# Altium schematic symbol library 3.4 - Holtek合泰单片机.SchLib: 87 symbols (part 2 of 2)
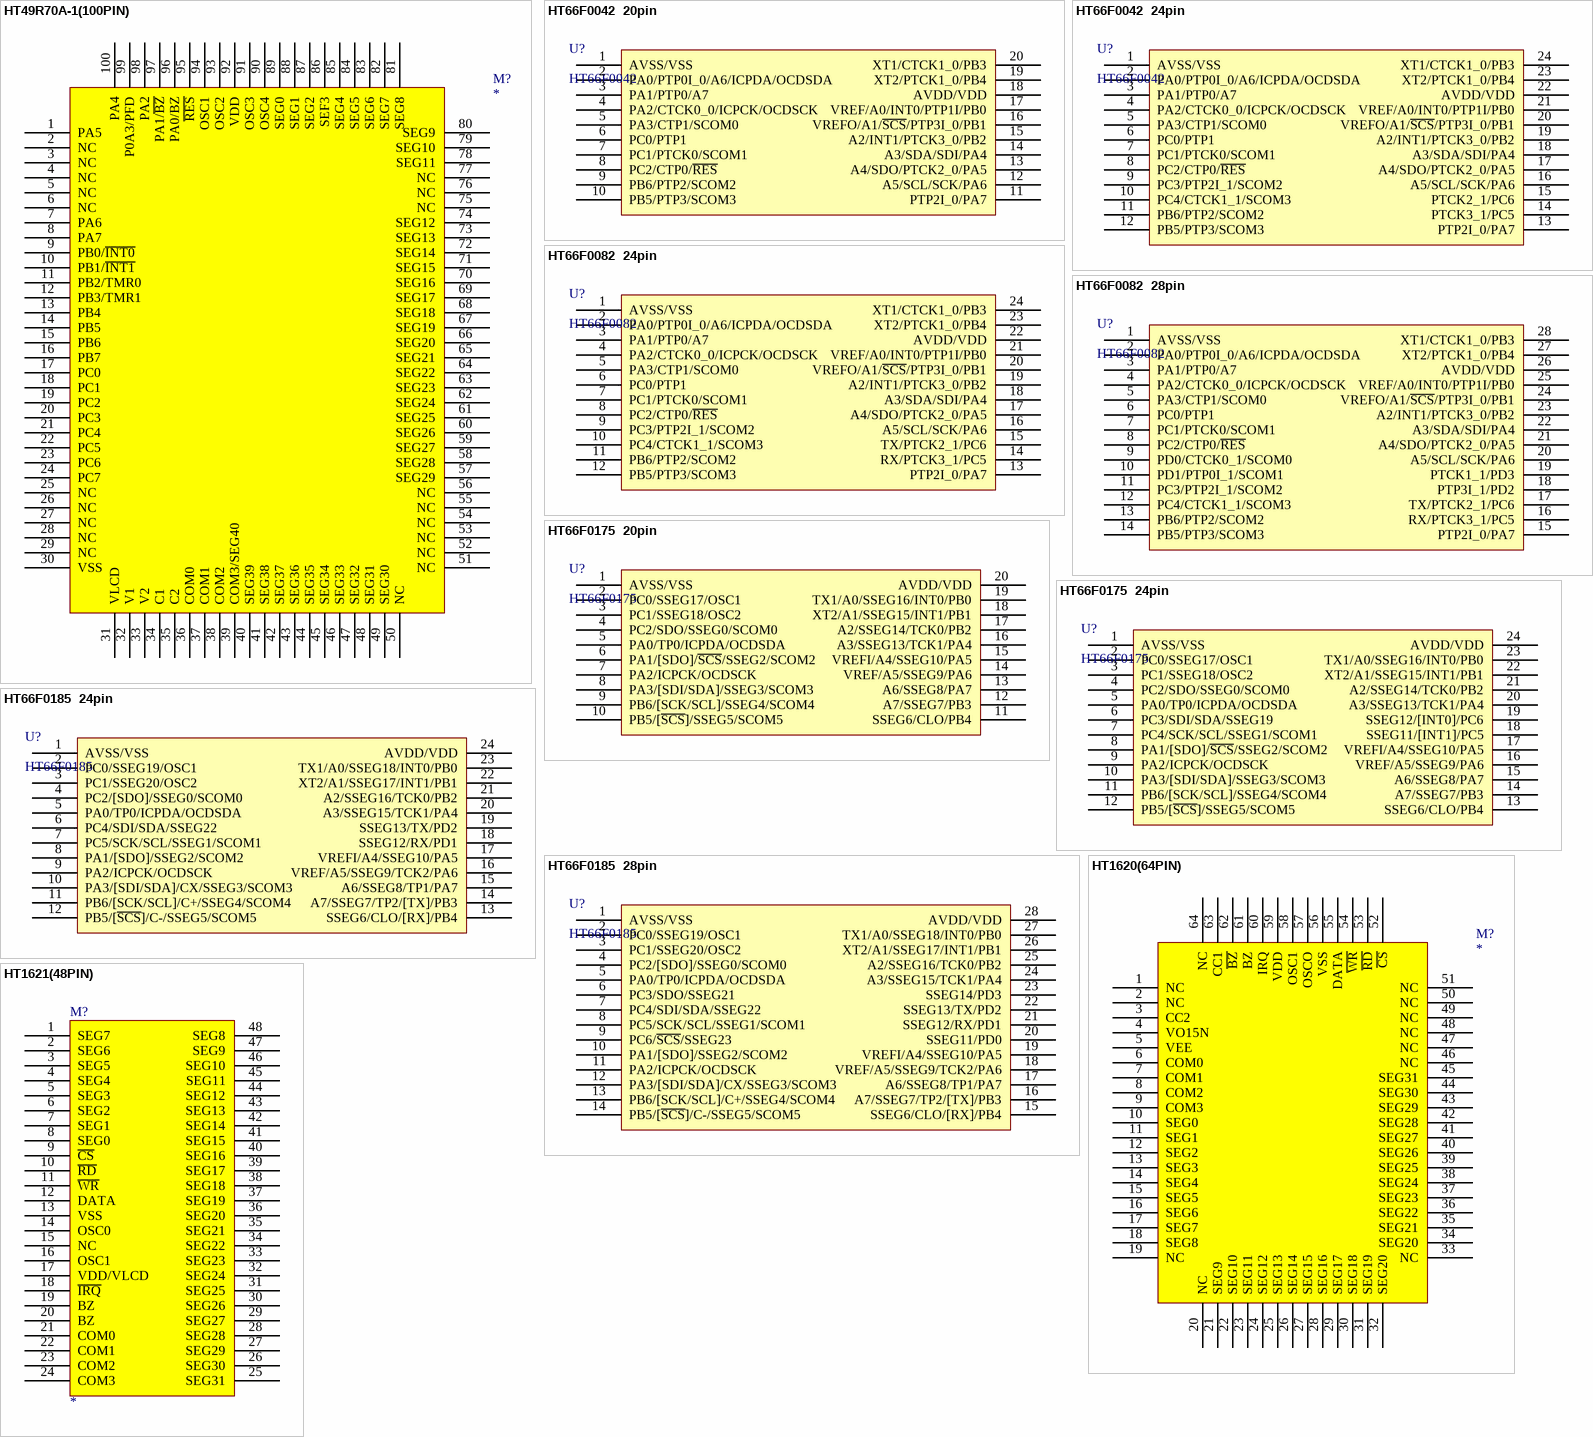
[diagram p8: symbols HT49R70A-1(100PIN) to HT1621(48PIN)]

## HT66F0175  24pin
designator U?, comment HT66F0175
LCD/AD型; 1.库作者: 冰凌猫; 2.库版本: v2.0 (2021.03.30); 3.交流分享: Q群514746572,开源更新,欢迎一起交流学习PCB设计; 4.作者声明: 旨为整合最全库集,欢迎转载,禁止商用！-冰凌猫; 5.备注说明: 该库已二次整合过网上各热销库,基本最全,无需重复搜购安装; 0.0_BOM名称: LCD/AD型
footprint SOP24_L (15.4*10.6*2.6mm（长宽高）)
footprint SOP24_N (15.4*10.6*2.6mm（长宽高）)
footprint SOP24_M (15.4*10.6*2.6mm（长宽高）)
pins: 1 AVSS/VSS, 2 PC0/SSEG17/OSC1, 3 PC1/SSEG18/OSC2, 4 PC2/SDO/SSEG0/SCOM0, 5 PA0/TP0/ICPDA/OCDSDA, 6 PC3/SDI/SDA/SSEG19, 7 PC4/SCK/SCL/SSEG1/SCOM1, 8 PA1/[SDO]/~{SCS}/SSEG2/SCOM2, 9 PA2/ICPCK/OCDSCK, 10 PA3/[SDI/SDA]/SSEG3/SCOM3, 11 PB6/[SCK/SCL]/SSEG4/SCOM4, 12 PB5/[~{SCS}]/SSEG5/SCOM5, 13 SSEG6/CLO/PB4, 14 A7/SSEG7/PB3, 15 A6/SSEG8/PA7, 16 VREF/A5/SSEG9/PA6, 17 VREFI/A4/SSEG10/PA5, 18 SSEG11/[INT1]/PC5, 19 SSEG12/[INT0]/PC6, 20 A3/SSEG13/TCK1/PA4, 21 A2/SSEG14/TCK0/PB2, 22 XT2/A1/SSEG15/INT1/PB1, 23 TX1/A0/SSEG16/INT0/PB0, 24 AVDD/VDD

## HT66F0185  24pin
designator U?, comment HT66F0185
LCD/AD型; 1.库作者: 冰凌猫; 2.库版本: v2.0 (2021.03.30); 3.交流分享: Q群514746572,开源更新,欢迎一起交流学习PCB设计; 4.作者声明: 旨为整合最全库集,欢迎转载,禁止商用！-冰凌猫; 5.备注说明: 该库已二次整合过网上各热销库,基本最全,无需重复搜购安装; 0.0_BOM名称: LCD/AD型
footprint SOP24_L (15.4*10.6*2.6mm（长宽高）)
footprint SOP24_N (15.4*10.6*2.6mm（长宽高）)
footprint SOP24_M (15.4*10.6*2.6mm（长宽高）)
pins: 1 AVSS/VSS, 2 PC0/SSEG19/OSC1, 3 PC1/SSEG20/OSC2, 4 PC2/[SDO]/SSEG0/SCOM0, 5 PA0/TP0/ICPDA/OCDSDA, 6 PC4/SDI/SDA/SSEG22, 7 PC5/SCK/SCL/SSEG1/SCOM1, 8 PA1/[SDO]/SSEG2/SCOM2, 9 PA2/ICPCK/OCDSCK, 10 PA3/[SDI/SDA]/CX/SSEG3/SCOM3, 11 PB6/[SCK/SCL]/C+/SSEG4/SCOM4, 12 PB5/[~{SCS}]/C-/SSEG5/SCOM5, 13 SSEG6/CLO/[RX]/PB4, 14 A7/SSEG7/TP2/[TX]/PB3, 15 A6/SSEG8/TP1/PA7, 16 VREF/A5/SSEG9/TCK2/PA6, 17 VREFI/A4/SSEG10/PA5, 18 SSEG12/RX/PD1, 19 SSEG13/TX/PD2, 20 A3/SSEG15/TCK1/PA4, 21 A2/SSEG16/TCK0/PB2, 22 XT2/A1/SSEG17/INT1/PB1, 23 TX1/A0/SSEG18/INT0/PB0, 24 AVDD/VDD

## HT66F0185  28pin
designator U?, comment HT66F0185
LCD/AD型; 1.库作者: 冰凌猫; 2.库版本: v2.0 (2021.03.30); 3.交流分享: Q群514746572,开源更新,欢迎一起交流学习PCB设计; 4.作者声明: 旨为整合最全库集,欢迎转载,禁止商用！-冰凌猫; 5.备注说明: 该库已二次整合过网上各热销库,基本最全,无需重复搜购安装; 0.0_BOM名称: LCD/AD型
footprint SOP28_L (17.9*10.6*2.6mm（长宽高）)
footprint SOP28_N (17.9*10.6*2.6mm（长宽高）)
footprint SOP28_M (17.9*10.6*2.6mm（长宽高）)
pins: 1 AVSS/VSS, 2 PC0/SSEG19/OSC1, 3 PC1/SSEG20/OSC2, 4 PC2/[SDO]/SSEG0/SCOM0, 5 PA0/TP0/ICPDA/OCDSDA, 6 PC3/SDO/SSEG21, 7 PC4/SDI/SDA/SSEG22, 8 PC5/SCK/SCL/SSEG1/SCOM1, 9 PC6/~{SCS}/SSEG23, 10 PA1/[SDO]/SSEG2/SCOM2, 11 PA2/ICPCK/OCDSCK, 12 PA3/[SDI/SDA]/CX/SSEG3/SCOM3, 13 PB6/[SCK/SCL]/C+/SSEG4/SCOM4, 14 PB5/[~{SCS}]/C-/SSEG5/SCOM5, 15 SSEG6/CLO/[RX]/PB4, 16 A7/SSEG7/TP2/[TX]/PB3, 17 A6/SSEG8/TP1/PA7, 18 VREF/A5/SSEG9/TCK2/PA6, 19 VREFI/A4/SSEG10/PA5, 20 SSEG11/PD0, 21 SSEG12/RX/PD1, 22 SSEG13/TX/PD2, 23 SSEG14/PD3, 24 A3/SSEG15/TCK1/PA4, 25 A2/SSEG16/TCK0/PB2, 26 XT2/A1/SSEG17/INT1/PB1, 27 TX1/A0/SSEG18/INT0/PB0, 28 AVDD/VDD

## HT1620(64PIN)
designator M?
HT1620(64PIN); 1.库作者: 冰凌猫; 2.库版本: v2.0 (2021.03.30); 3.交流分享: Q群514746572,开源更新,欢迎一起交流学习PCB设计; 4.作者声明: 旨为整合最全库集,欢迎转载,禁止商用！-冰凌猫; 5.备注说明: 该库已二次整合过网上各热销库,基本最全,无需重复搜购安装
footprint QFP64
pins: 1 NC, 2 NC, 3 CC2, 4 VO15N, 5 VEE, 6 COM0, 7 COM1, 8 COM2, 9 COM3, 10 SEG0, 11 SEG1, 12 SEG2, 13 SEG3, 14 SEG4, 15 SEG5, 16 SEG6, 17 SEG7, 18 SEG8, 19 NC, 20 NC, 21 SEG9, 22 SEG10, 23 SEG11, 24 SEG12, 25 SEG13, 26 SEG14, 27 SEG15, 28 SEG16, 29 SEG17, 30 SEG18, 31 SEG19, 32 SEG20, 33 NC, 34 SEG20, 35 SEG21, 36 SEG22, 37 SEG23, 38 SEG24, 39 SEG25, 40 SEG26, 41 SEG27, 42 SEG28, 43 SEG29, 44 SEG30, 45 SEG31, 46 NC, 47 NC, 48 NC, 49 NC, 50 NC, 51 NC, 52 ~{CS}, 53 ~{RD}, 54 ~{WR}, 55 DATA, 56 VSS, 57 OSCO, 58 OSC1, 59 VDD, 60 IRQ, 61 BZ, 62 ~{BZ}, 63 CC1, 64 NC

## HT1621(48PIN)
designator M?
HT1621(48PIN); 1.库作者: 冰凌猫; 2.库版本: v2.0 (2021.03.30); 3.交流分享: Q群514746572,开源更新,欢迎一起交流学习PCB设计; 4.作者声明: 旨为整合最全库集,欢迎转载,禁止商用！-冰凌猫; 5.备注说明: 该库已二次整合过网上各热销库,基本最全,无需重复搜购安装
footprint SSOP48
pins: 1 SEG7, 2 SEG6, 3 SEG5, 4 SEG4, 5 SEG3, 6 SEG2, 7 SEG1, 8 SEG0, 9 ~{CS}, 10 ~{RD}, 11 ~{WR}, 12 DATA, 13 VSS, 14 OSC0, 15 NC, 16 OSC1, 17 VDD/VLCD, 18 ~{IRQ}, 19 BZ, 20 BZ, 21 COM0, 22 COM1, 23 COM2, 24 COM3, 25 SEG31, 26 SEG30, 27 SEG29, 28 SEG28, 29 SEG27, 30 SEG26, 31 SEG25, 32 SEG24, 33 SEG23, 34 SEG22, 35 SEG21, 36 SEG20, 37 SEG19, 38 SEG18, 39 SEG17, 40 SEG16, 41 SEG15, 42 SEG14, 43 SEG13, 44 SEG12, 45 SEG11, 46 SEG10, 47 SEG9, 48 SEG8

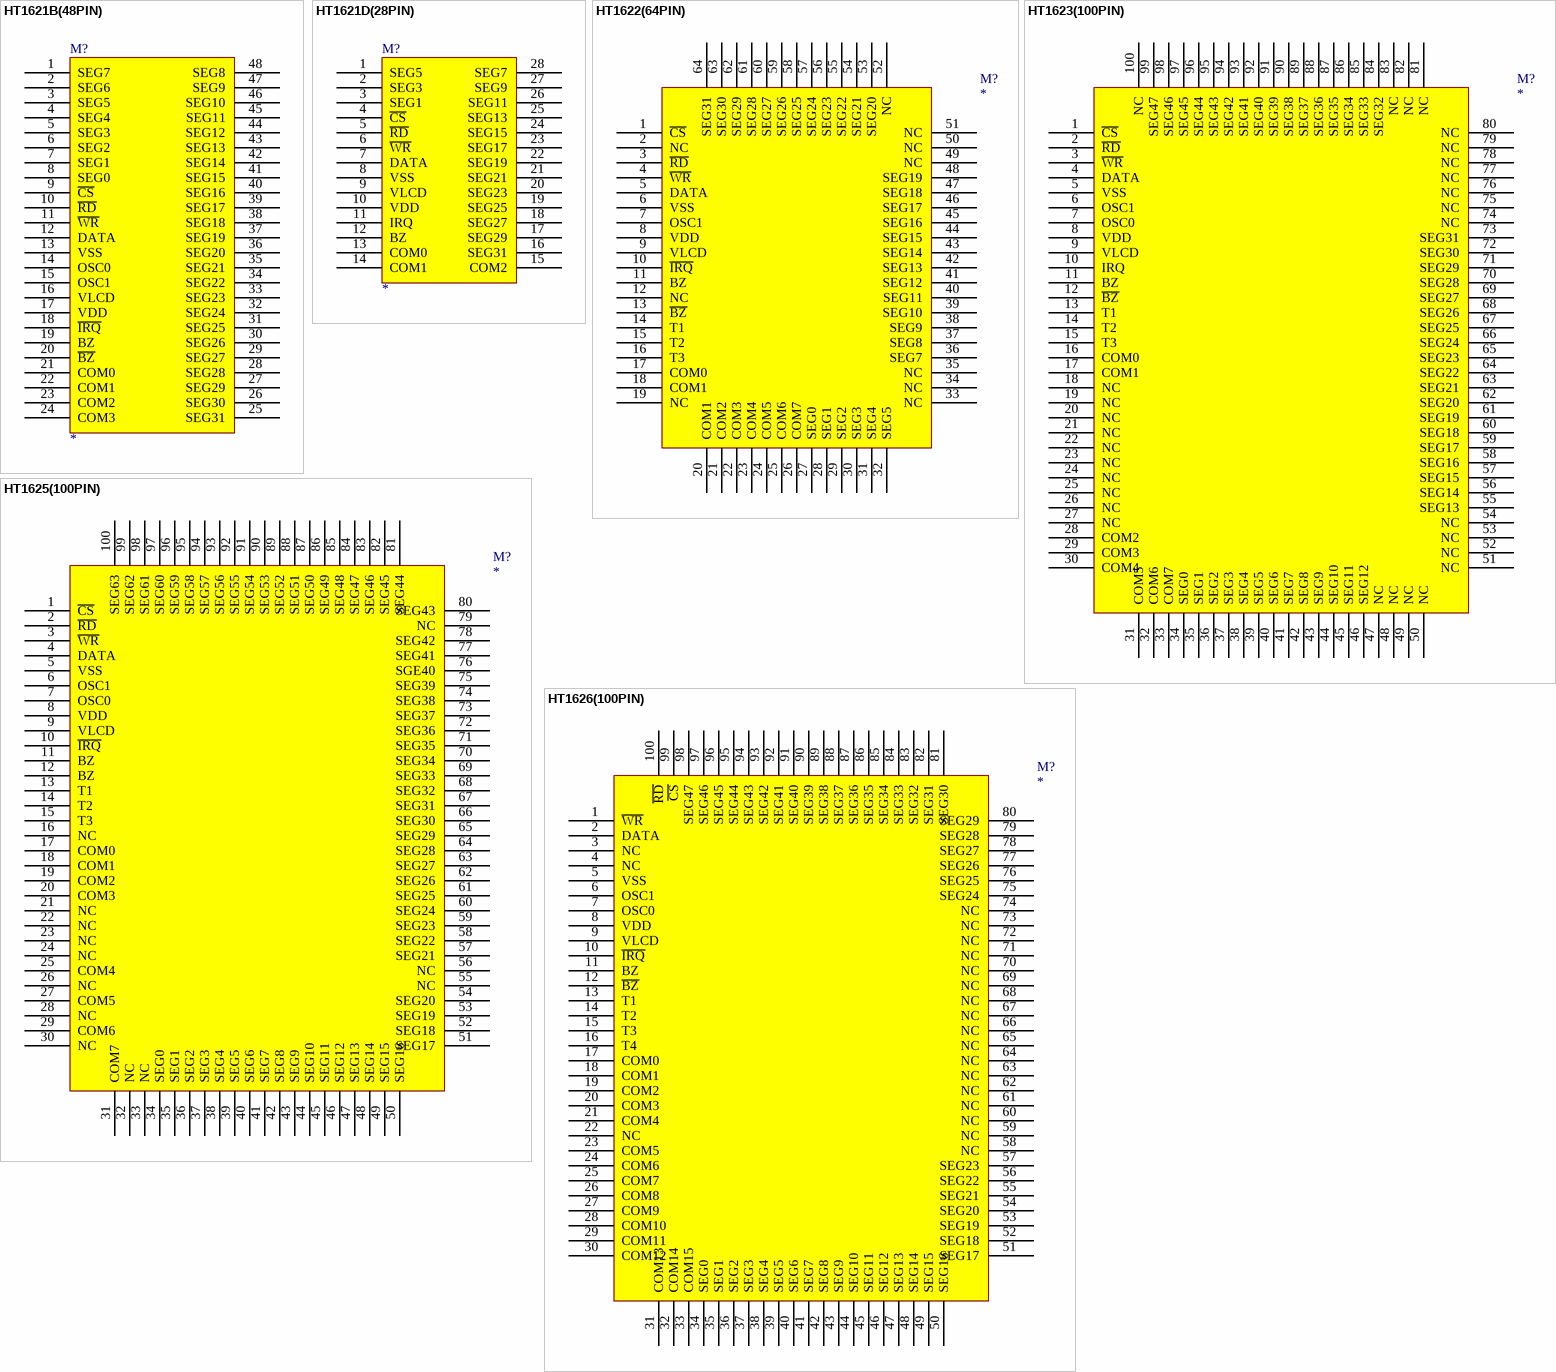
[diagram p6: symbols HT1621B(48PIN) to HT1626(100PIN)]

## HT1621B(48PIN)
designator M?
HT1621B(48PIN); 1.库作者: 冰凌猫; 2.库版本: v2.0 (2021.03.30); 3.交流分享: Q群514746572,开源更新,欢迎一起交流学习PCB设计; 4.作者声明: 旨为整合最全库集,欢迎转载,禁止商用！-冰凌猫; 5.备注说明: 该库已二次整合过网上各热销库,基本最全,无需重复搜购安装
footprint SSOP48
footprint DIP48
pins: 1 SEG7, 2 SEG6, 3 SEG5, 4 SEG4, 5 SEG3, 6 SEG2, 7 SEG1, 8 SEG0, 9 ~{CS}, 10 ~{RD}, 11 ~{WR}, 12 DATA, 13 VSS, 14 OSC0, 15 OSC1, 16 VLCD, 17 VDD, 18 ~{IRQ}, 19 BZ, 20 ~{BZ}, 21 COM0, 22 COM1, 23 COM2, 24 COM3, 25 SEG31, 26 SEG30, 27 SEG29, 28 SEG28, 29 SEG27, 30 SEG26, 31 SEG25, 32 SEG24, 33 SEG23, 34 SEG22, 35 SEG21, 36 SEG20, 37 SEG19, 38 SEG18, 39 SEG17, 40 SEG16, 41 SEG15, 42 SEG14, 43 SEG13, 44 SEG12, 45 SEG11, 46 SEG10, 47 SEG9, 48 SEG8

## HT1621D(28PIN)
designator M?
HT1621D(28PIN); 1.库作者: 冰凌猫; 2.库版本: v2.0 (2021.03.30); 3.交流分享: Q群514746572,开源更新,欢迎一起交流学习PCB设计; 4.作者声明: 旨为整合最全库集,欢迎转载,禁止商用！-冰凌猫; 5.备注说明: 该库已二次整合过网上各热销库,基本最全,无需重复搜购安装
footprint SKDIP28
pins: 1 SEG5, 2 SEG3, 3 SEG1, 4 ~{CS}, 5 ~{RD}, 6 ~{WR}, 7 DATA, 8 VSS, 9 VLCD, 10 VDD, 11 IRQ, 12 BZ, 13 COM0, 14 COM1, 15 COM2, 16 SEG31, 17 SEG29, 18 SEG27, 19 SEG25, 20 SEG23, 21 SEG21, 22 SEG19, 23 SEG17, 24 SEG15, 25 SEG13, 26 SEG11, 27 SEG9, 28 SEG7

## HT1622(64PIN)
designator M?
HT1622(64PIN); 1.库作者: 冰凌猫; 2.库版本: v2.0 (2021.03.30); 3.交流分享: Q群514746572,开源更新,欢迎一起交流学习PCB设计; 4.作者声明: 旨为整合最全库集,欢迎转载,禁止商用！-冰凌猫; 5.备注说明: 该库已二次整合过网上各热销库,基本最全,无需重复搜购安装
footprint QFP64
pins: 1 ~{CS}, 2 NC, 3 ~{RD}, 4 ~{WR}, 5 DATA, 6 VSS, 7 OSC1, 8 VDD, 9 VLCD, 10 ~{IRQ}, 11 BZ, 12 NC, 13 ~{BZ}, 14 T1, 15 T2, 16 T3, 17 COM0, 18 COM1, 19 NC, 20 COM1, 21 COM2, 22 COM3, 23 COM4, 24 COM5, 25 COM6, 26 COM7, 27 SEG0, 28 SEG1, 29 SEG2, 30 SEG3, 31 SEG4, 32 SEG5, 33 NC, 34 NC, 35 NC, 36 SEG7, 37 SEG8, 38 SEG9, 39 SEG10, 40 SEG11, 41 SEG12, 42 SEG13, 43 SEG14, 44 SEG15, 45 SEG16, 46 SEG17, 47 SEG18, 48 SEG19, 49 NC, 50 NC, 51 NC, 52 NC, 53 SEG20, 54 SEG21, 55 SEG22, 56 SEG23, 57 SEG24, 58 SEG25, 59 SEG26, 60 SEG27, 61 SEG28, 62 SEG29, 63 SEG30, 64 SEG31

## HT1623(100PIN)
designator M?
HT1623(100PIN); 1.库作者: 冰凌猫; 2.库版本: v2.0 (2021.03.30); 3.交流分享: Q群514746572,开源更新,欢迎一起交流学习PCB设计; 4.作者声明: 旨为整合最全库集,欢迎转载,禁止商用！-冰凌猫; 5.备注说明: 该库已二次整合过网上各热销库,基本最全,无需重复搜购安装
footprint QFP100
pins: 1 ~{CS}, 2 ~{RD}, 3 ~{WR}, 4 DATA, 5 VSS, 6 OSC1, 7 OSC0, 8 VDD, 9 VLCD, 10 IRQ, 11 BZ, 12 ~{BZ}, 13 T1, 14 T2, 15 T3, 16 COM0, 17 COM1, 18 NC, 19 NC, 20 NC, 21 NC, 22 NC, 23 NC, 24 NC, 25 NC, 26 NC, 27 NC, 28 COM2, 29 COM3, 30 COM4, 31 COM5, 32 COM6, 33 COM7, 34 SEG0, 35 SEG1, 36 SEG2, 37 SEG3, 38 SEG4, 39 SEG5, 40 SEG6, 41 SEG7, 42 SEG8, 43 SEG9, 44 SEG10, 45 SEG11, 46 SEG12, 47 NC, 48 NC, 49 NC, 50 NC, 51 NC, 52 NC, 53 NC, 54 NC, 55 SEG13, 56 SEG14, 57 SEG15, 58 SEG16, 59 SEG17, 60 SEG18, 61 SEG19, 62 SEG20, 63 SEG21, 64 SEG22, 65 SEG23, 66 SEG24, 67 SEG25, 68 SEG26, 69 SEG27, 70 SEG28, 71 SEG29, 72 SEG30, 73 SEG31, 74 NC, 75 NC, 76 NC, 77 NC, 78 NC, 79 NC, 80 NC, 81 NC, 82 NC, 83 NC, 84 SEG32, 85 SEG33, 86 SEG34, 87 SEG35, 88 SEG36, 89 SEG37, 90 SEG38, 91 SEG39, 92 SEG40, 93 SEG41, 94 SEG42, 95 SEG43, 96 SEG44, 97 SEG45, 98 SEG46, 99 SEG47, 100 NC

## HT1625(100PIN)
designator M?
HT1625(100PIN); 1.库作者: 冰凌猫; 2.库版本: v2.0 (2021.03.30); 3.交流分享: Q群514746572,开源更新,欢迎一起交流学习PCB设计; 4.作者声明: 旨为整合最全库集,欢迎转载,禁止商用！-冰凌猫; 5.备注说明: 该库已二次整合过网上各热销库,基本最全,无需重复搜购安装
footprint QFP100
pins: 1 ~{CS}, 2 ~{RD}, 3 ~{WR}, 4 DATA, 5 VSS, 6 OSC1, 7 OSC0, 8 VDD, 9 VLCD, 10 ~{IRQ}, 11 BZ, 12 BZ, 13 T1, 14 T2, 15 T3, 16 NC, 17 COM0, 18 COM1, 19 COM2, 20 COM3, 21 NC, 22 NC, 23 NC, 24 NC, 25 COM4, 26 NC, 27 COM5, 28 NC, 29 COM6, 30 NC, 31 COM7, 32 NC, 33 NC, 34 SEG0, 35 SEG1, 36 SEG2, 37 SEG3, 38 SEG4, 39 SEG5, 40 SEG6, 41 SEG7, 42 SEG8, 43 SEG9, 44 SEG10, 45 SEG11, 46 SEG12, 47 SEG13, 48 SEG14, 49 SEG15, 50 SEG16, 51 SEG17, 52 SEG18, 53 SEG19, 54 SEG20, 55 NC, 56 NC, 57 SEG21, 58 SEG22, 59 SEG23, 60 SEG24, 61 SEG25, 62 SEG26, 63 SEG27, 64 SEG28, 65 SEG29, 66 SEG30, 67 SEG31, 68 SEG32, 69 SEG33, 70 SEG34, 71 SEG35, 72 SEG36, 73 SEG37, 74 SEG38, 75 SEG39, 76 SGE40, 77 SEG41, 78 SEG42, 79 NC, 80 SEG43, 81 SEG44, 82 SEG45, 83 SEG46, 84 SEG47, 85 SEG48, 86 SEG49, 87 SEG50, 88 SEG51, 89 SEG52, 90 SEG53, 91 SEG54, 92 SEG55, 93 SEG56, 94 SEG57, 95 SEG58, 96 SEG59, 97 SEG60, 98 SEG61, 99 SEG62, 100 SEG63

## HT1626(100PIN)
designator M?
HT1626(100PIN); 1.库作者: 冰凌猫; 2.库版本: v2.0 (2021.03.30); 3.交流分享: Q群514746572,开源更新,欢迎一起交流学习PCB设计; 4.作者声明: 旨为整合最全库集,欢迎转载,禁止商用！-冰凌猫; 5.备注说明: 该库已二次整合过网上各热销库,基本最全,无需重复搜购安装
footprint QFP100
pins: 1 ~{WR}, 2 DATA, 3 NC, 4 NC, 5 VSS, 6 OSC1, 7 OSC0, 8 VDD, 9 VLCD, 10 ~{IRQ}, 11 BZ, 12 ~{BZ}, 13 T1, 14 T2, 15 T3, 16 T4, 17 COM0, 18 COM1, 19 COM2, 20 COM3, 21 COM4, 22 NC, 23 COM5, 24 COM6, 25 COM7, 26 COM8, 27 COM9, 28 COM10, 29 COM11, 30 COM12, 31 COM13, 32 COM14, 33 COM15, 34 SEG0, 35 SEG1, 36 SEG2, 37 SEG3, 38 SEG4, 39 SEG5, 40 SEG6, 41 SEG7, 42 SEG8, 43 SEG9, 44 SEG10, 45 SEG11, 46 SEG12, 47 SEG13, 48 SEG14, 49 SEG15, 50 SEG16, 51 SEG17, 52 SEG18, 53 SEG19, 54 SEG20, 55 SEG21, 56 SEG22, 57 SEG23, 58 NC, 59 NC, 60 NC, 61 NC, 62 NC, 63 NC, 64 NC, 65 NC, 66 NC, 67 NC, 68 NC, 69 NC, 70 NC, 71 NC, 72 NC, 73 NC, 74 NC, 75 SEG24, 76 SEG25, 77 SEG26, 78 SEG27, 79 SEG28, 80 SEG29, 81 SEG30, 82 SEG31, 83 SEG32, 84 SEG33, 85 SEG34, 86 SEG35, 87 SEG36, 88 SEG37, 89 SEG38, 90 SEG39, 91 SEG40, 92 SEG41, 93 SEG42, 94 SEG43, 95 SEG44, 96 SEG45, 97 SEG46, 98 SEG47, 99 ~{CS}, 100 ~{RD}

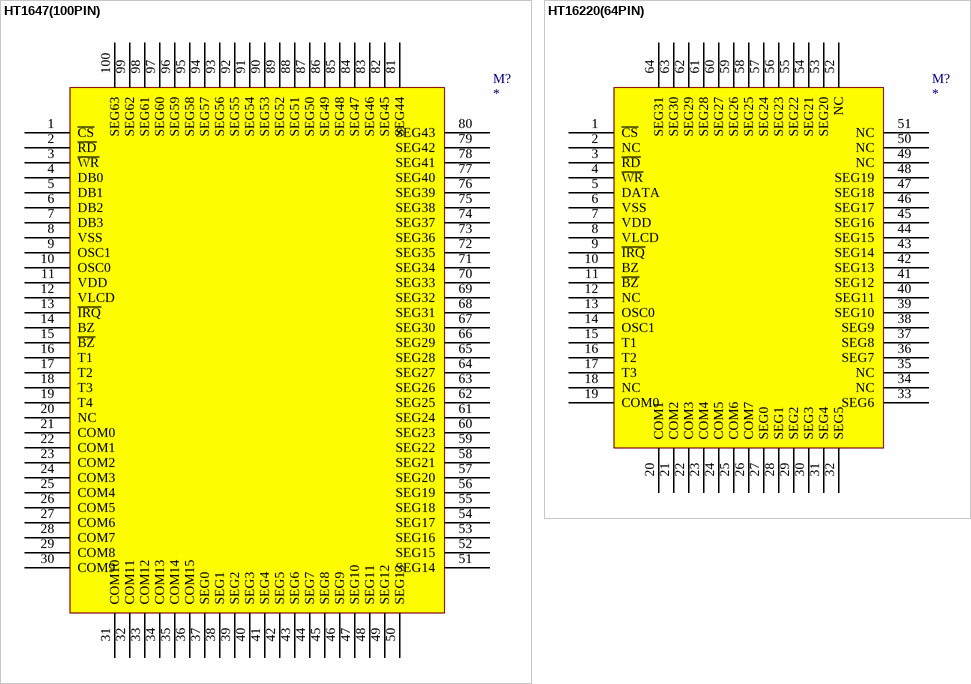
[diagram p7: symbols HT1647(100PIN) to HT16220(64PIN)]

## HT1647(100PIN)
designator M?
HT1647(100PIN); 1.库作者: 冰凌猫; 2.库版本: v2.0 (2021.03.30); 3.交流分享: Q群514746572,开源更新,欢迎一起交流学习PCB设计; 4.作者声明: 旨为整合最全库集,欢迎转载,禁止商用！-冰凌猫; 5.备注说明: 该库已二次整合过网上各热销库,基本最全,无需重复搜购安装
footprint QFP100
pins: 1 ~{CS}, 2 ~{RD}, 3 ~{WR}, 4 DB0, 5 DB1, 6 DB2, 7 DB3, 8 VSS, 9 OSC1, 10 OSC0, 11 VDD, 12 VLCD, 13 ~{IRQ}, 14 BZ, 15 ~{BZ}, 16 T1, 17 T2, 18 T3, 19 T4, 20 NC, 21 COM0, 22 COM1, 23 COM2, 24 COM3, 25 COM4, 26 COM5, 27 COM6, 28 COM7, 29 COM8, 30 COM9, 31 COM10, 32 COM11, 33 COM12, 34 COM13, 35 COM14, 36 COM15, 37 SEG0, 38 SEG1, 39 SEG2, 40 SEG3, 41 SEG4, 42 SEG5, 43 SEG6, 44 SEG7, 45 SEG8, 46 SEG9, 47 SEG10, 48 SEG11, 49 SEG12, 50 SEG13, 51 SEG14, 52 SEG15, 53 SEG16, 54 SEG17, 55 SEG18, 56 SEG19, 57 SEG20, 58 SEG21, 59 SEG22, 60 SEG23, 61 SEG24, 62 SEG25, 63 SEG26, 64 SEG27, 65 SEG28, 66 SEG29, 67 SEG30, 68 SEG31, 69 SEG32, 70 SEG33, 71 SEG34, 72 SEG35, 73 SEG36, 74 SEG37, 75 SEG38, 76 SEG39, 77 SEG40, 78 SEG41, 79 SEG42, 80 SEG43, 81 SEG44, 82 SEG45, 83 SEG46, 84 SEG47, 85 SEG48, 86 SEG49, 87 SEG50, 88 SEG51, 89 SEG52, 90 SEG53, 91 SEG54, 92 SEG55, 93 SEG56, 94 SEG57, 95 SEG58, 96 SEG59, 97 SEG60, 98 SEG61, 99 SEG62, 100 SEG63

## HT16220(64PIN)
designator M?
HT16220(64PIN); 1.库作者: 冰凌猫; 2.库版本: v2.0 (2021.03.30); 3.交流分享: Q群514746572,开源更新,欢迎一起交流学习PCB设计; 4.作者声明: 旨为整合最全库集,欢迎转载,禁止商用！-冰凌猫; 5.备注说明: 该库已二次整合过网上各热销库,基本最全,无需重复搜购安装
footprint QFP64
pins: 1 ~{CS}, 2 NC, 3 ~{RD}, 4 ~{WR}, 5 DATA, 6 VSS, 7 VDD, 8 VLCD, 9 ~{IRQ}, 10 BZ, 11 ~{BZ}, 12 NC, 13 OSC0, 14 OSC1, 15 T1, 16 T2, 17 T3, 18 NC, 19 COM0, 20 COM1, 21 COM2, 22 COM3, 23 COM4, 24 COM5, 25 COM6, 26 COM7, 27 SEG0, 28 SEG1, 29 SEG2, 30 SEG3, 31 SEG4, 32 SEG5, 33 SEG6, 34 NC, 35 NC, 36 SEG7, 37 SEG8, 38 SEG9, 39 SEG10, 40 SEG11, 41 SEG12, 42 SEG13, 43 SEG14, 44 SEG15, 45 SEG16, 46 SEG17, 47 SEG18, 48 SEG19, 49 NC, 50 NC, 51 NC, 52 NC, 53 SEG20, 54 SEG21, 55 SEG22, 56 SEG23, 57 SEG24, 58 SEG25, 59 SEG26, 60 SEG27, 61 SEG28, 62 SEG29, 63 SEG30, 64 SEG31